# Altium footprint library PCBLIB2.PcbLib: 37 footprints (part 3 of 3)
Each footprint in its own frame and in the unit in brackets; x right, y up, seen from the top. Pads: shape width x height; smd on the part's side, far side on the other; paste and mask are expansions set on the pad; w line width, h text height; cw(c..) or ccw(c..) is an arc to the next point about the centre after c.
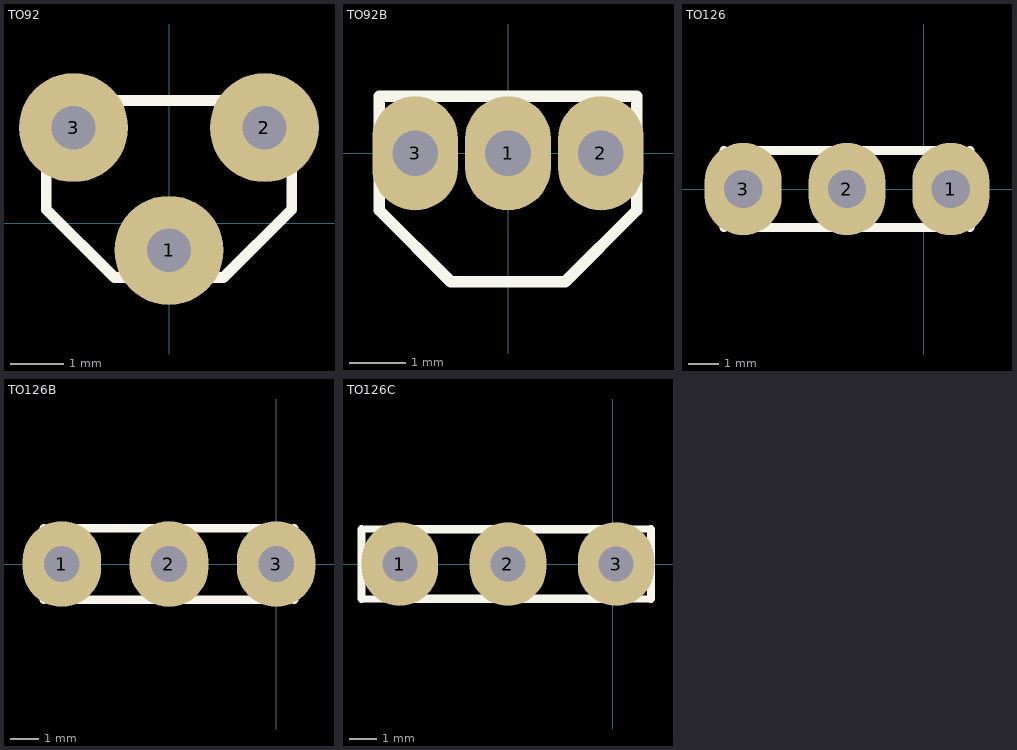
[diagram p2: the footprints below, top view; thin cyan lines are the x and y axes]

## TO92 [mil]
pads (3):
  round 80 hole 32: 1(0,-20) 2(70,70) 3(-70,70)
TopOverlay:
  lines w8: -90,10 -40,-40 40,-40 90,10 90,90 -90,90 -90,10

## TO92B [mil]
pads (3):
  oval 60x80 hole 32: 1(0,0) 2(65,0) 3(-65,0)
TopOverlay:
  lines w8: -90,-40 -90,40 90,40 90,-40 40,-90 -40,-90 -90,-40

## TO126 [mil]
pads (3):
  oval 100x120 hole 50: 1(35,0) 2(-100,0) 3(-235,0)
TopOverlay:
  lines w12: -260,-50 -260,50 ; -250,-50 50,-50 ; -250,50 50,50 ; 60,-50 60,50

## TO126B [mil]
pads (3):
  oval 110x120 hole 50: 1(-300,0) 2(-150,0) 3(0,0)
TopOverlay:
  lines w10: -325,50 -275,50 ; -320,-50 -280,-50
  lines w12: -325,-50 -325,50 ; -285,-50 15,-50 ; -285,50 15,50 ; 25,-50 25,50

## TO126C [mil]
pads (3):
  oval 110x120 hole 50: 1(-305,0) 2(-150,0) 3(5,0)
TopOverlay:
  lines w10: -360,-50 -315,-50 ; -355,50 -325,50 -275,50 ; -320,-50 -280,-50 ; 15,-50 55,-50 ; 15,50 55,50
  lines w12: -360,-50 -360,50 ; -285,-50 15,-50 ; -285,50 15,50 ; 55,-50 55,50